# Altium integrated library TI_Logic_Little_Logic.IntLib: 1164 symbols (part 21 of 35)
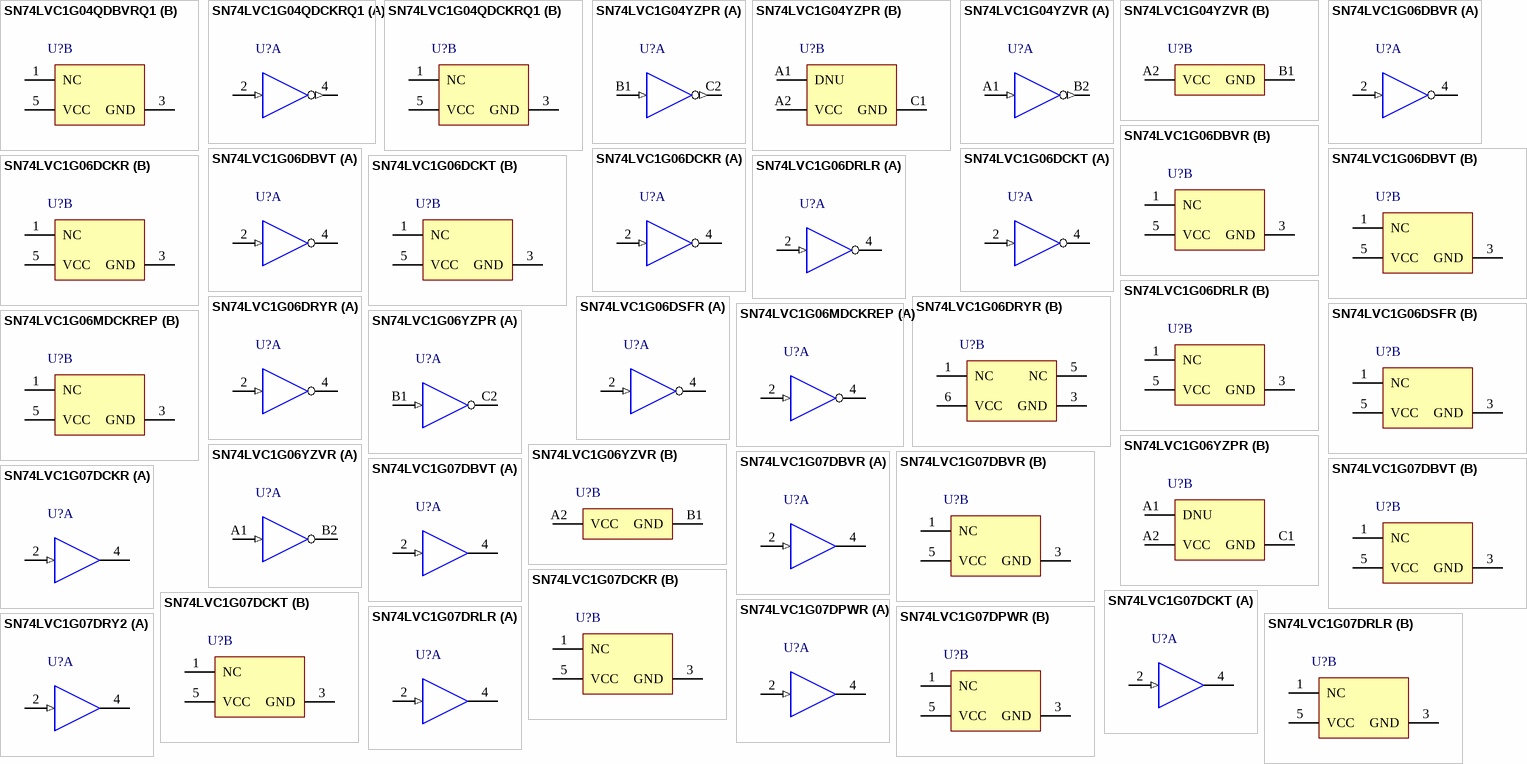
[diagram p80: symbols SN74LVC1G04QDBVRQ1 to SN74LVC1G07DRY2]

## SN74LVC1G04QDBVRQ1
designator U?
Automotive Catalog Single Inverter, DBV0005A, LARGE T&R; Generic Part Number: SN74LVC1G04-Q1; Manufacturer: Texas Instruments; PartNumber: SN74LVC1G04QDBVRQ1; VCC(Min)(V): 1.65; VCC(Max)(V): 5.5; Output Type: CMOS; ICC @ Nom Voltage(Max)(mA): 0.01; Input Type: CMOS/TTL; Bits(#): 1; F @ Nom Voltage(Max)(Mhz): 150; Technology Family: LVC; Voltage(Nom)(V): 1.8,2.5,3.3,5; Schmitt Trigger: No; Output Drive (IOL/IOH)(Max)(mA): 32/-32; tpd @ Nom Voltage(Max)(ns): 7.5,5.2,4.2,3.7; Logic: Inverting; Sub-Family: Inverting Buffer/Driver; DatasheetVersion: SCES482D; PackageReference: DBV0005A; Supplier 1: Mouser; Supplier Part Number 1: 595-LVC1G04QDBVRQ1; Supplier 2: Digi-Key; Supplier Part Number 2: 296-26588-2-ND; Supplier 3: Digi-Key; Supplier Part Number 3: 296-26588-1-ND; Supplier 4: Digi-Key; Supplier Part Number 4: 296-26588-6-ND; Operating Temperature Range(C): -40 to 125; Rating: Automotive; 3-State Output: No; ComponentLink1Description: Manufacturer URL; ComponentLink1URL: http://www.ti.com/; ComponentLink2Description: Datasheet; ComponentLink2URL: http://www.ti.com/lit/ds/symlink/sn74lvc1g04-q1.pdf
footprint DBV0005A_N (SOT23, 5-Leads, Body 3.05x1.75mm, Pitch 0.95mm, IPC Medium Density)
footprint DBV0005A_M (SOT23, 5-Leads, Body 3.05x1.75mm, Pitch 0.95mm, IPC Low Density)
footprint DBV0005A_L (SOT23, 5-Leads, Body 3.05x1.75mm, Pitch 0.95mm, IPC High Density)
part A pins: 2 A (in) "Input A", 4 Y (out) "Output Y"
part B pins: 1 NC "Ground", 3 GND (power) "Ground Pin", 5 VCC (power) "Power Pin"

## SN74LVC1G04QDCKRQ1
designator U?
Automotive Catalog Single Inverter, DCK0005A, LARGE T&R; Generic Part Number: SN74LVC1G04-Q1; Manufacturer: Texas Instruments; PartNumber: SN74LVC1G04QDCKRQ1; VCC(Min)(V): 1.65; VCC(Max)(V): 5.5; Output Type: CMOS; ICC @ Nom Voltage(Max)(mA): 0.01; Input Type: CMOS/TTL; Bits(#): 1; F @ Nom Voltage(Max)(Mhz): 150; Technology Family: LVC; Voltage(Nom)(V): 1.8,2.5,3.3,5; Schmitt Trigger: No; Output Drive (IOL/IOH)(Max)(mA): 32/-32; tpd @ Nom Voltage(Max)(ns): 7.5,5.2,4.2,3.7; Logic: Inverting; Sub-Family: Inverting Buffer/Driver; DatasheetVersion: SCES482D; PackageReference: DCK0005A; Supplier 1: Mouser; Supplier Part Number 1: 595-SN74LVC1G04QDCQ1; Supplier 2: Digi-Key; Supplier Part Number 2: 296-22895-2-ND; Supplier 3: Digi-Key; Supplier Part Number 3: 296-22895-1-ND; Supplier 4: Digi-Key; Supplier Part Number 4: 296-22895-6-ND; Operating Temperature Range(C): -40 to 125; Rating: Automotive; 3-State Output: No; ComponentLink1Description: Manufacturer URL; ComponentLink1URL: http://www.ti.com/; ComponentLink2Description: Datasheet; ComponentLink2URL: http://www.ti.com/lit/ds/symlink/sn74lvc1g04-q1.pdf
footprint DCK0005A_N (SOT23, 5-Leads, Body 2.15x1.4mm, Pitch 0.65mm, IPC Medium Density)
footprint DCK0005A_M (SOT23, 5-Leads, Body 2.15x1.4mm, Pitch 0.65mm, IPC Low Density)
footprint DCK0005A_L (SOT23, 5-Leads, Body 2.15x1.4mm, Pitch 0.65mm, IPC High Density)
part A pins: 2 A (in) "Input A", 4 Y (out) "Output Y"
part B pins: 1 NC "Ground", 3 GND (power) "Ground Pin", 5 VCC (power) "Power Pin"

## SN74LVC1G04YZPR
designator U?
Single Inverter, YZP0005ADAD, LARGE T&R; Generic Part Number: SN74LVC1G04; Manufacturer: Texas Instruments; PartNumber: SN74LVC1G04YZPR; VCC(Min)(V): 1.65; VCC(Max)(V): 5.5; Output Type: CMOS; ICC @ Nom Voltage(Max)(mA): 0.01; Input Type: CMOS/TTL; Bits(#): 1; F @ Nom Voltage(Max)(Mhz): 150; Rating: Catalog; Technology Family: LVC; Voltage(Nom)(V): 1.8,2.5,3.3,5; Schmitt Trigger: No; Output Drive (IOL/IOH)(Max)(mA): 32/-32; tpd @ Nom Voltage(Max)(ns): 7.5,5.2,4.2,3.7; Logic: Inverting; Sub-Family: Inverting Buffer/Driver; DatasheetVersion: SCES214AD; PackageReference: YZP0005ADAD; Supplier 1: Mouser; Supplier Part Number 1: 595-SN74LVC1G04YZPR; Supplier 2: Digi-Key; Supplier Part Number 2: 296-14355-2-ND; Supplier 3: Digi-Key; Supplier Part Number 3: 296-14355-1-ND; Supplier 4: Digi-Key; Supplier Part Number 4: 296-14355-6-ND; Operating Temperature Range(C): -40 to 125,-40 to 85; 3-State Output: No; ComponentLink1Description: Manufacturer URL; ComponentLink1URL: http://www.ti.com/; ComponentLink2Description: Datasheet; ComponentLink2URL: http://www.ti.com/lit/ds/symlink/sn74lvc1g04.pdf
footprint YZP0005ADAD (BGA, 5-Balls, Body 1.39x0.89mm, Pitch 0.5mm)
part A pins: B1 A (in) "Input", C2 Y (out) "Output"
part B pins: A1 DNU "Do not use", A2 VCC (power) "Power terminal", C1 GND (power) "Ground"

## SN74LVC1G04YZVR
designator U?
Single Inverter, YZV0004ADAD, LARGE T&R; Generic Part Number: SN74LVC1G04; Manufacturer: Texas Instruments; PartNumber: SN74LVC1G04YZVR; VCC(Min)(V): 1.65; VCC(Max)(V): 5.5; Output Type: CMOS; ICC @ Nom Voltage(Max)(mA): 0.01; Input Type: CMOS/TTL; Bits(#): 1; F @ Nom Voltage(Max)(Mhz): 150; Rating: Catalog; Technology Family: LVC; Voltage(Nom)(V): 1.8,2.5,3.3,5; Schmitt Trigger: No; Output Drive (IOL/IOH)(Max)(mA): 32/-32; tpd @ Nom Voltage(Max)(ns): 7.5,5.2,4.2,3.7; Logic: Inverting; Sub-Family: Inverting Buffer/Driver; DatasheetVersion: SCES214AD; PackageReference: YZV0004ADAD; Supplier 1: Mouser; Supplier Part Number 1: 595-SN74LVC1G04YZVR; Supplier 2: Digi-Key; Supplier Part Number 2: 296-21055-2-ND; Supplier 3: Digi-Key; Supplier Part Number 3: 296-21055-1-ND; Supplier 4: Digi-Key; Supplier Part Number 4: 296-21055-6-ND; Operating Temperature Range(C): -40 to 125,-40 to 85; 3-State Output: No; ComponentLink1Description: Manufacturer URL; ComponentLink1URL: http://www.ti.com/; ComponentLink2Description: Datasheet; ComponentLink2URL: http://www.ti.com/lit/ds/symlink/sn74lvc1g04.pdf
footprint YZV0004ADAD (BGA, 4-Balls, Body 0.89x0.89mm, Pitch 0.5mm)
part A pins: A1 A (in) "Input", B2 Y (out) "Output"
part B pins: A2 VCC (power) "Power pin", B1 GND (power) "Ground"

## SN74LVC1G06DBVR
designator U?
Single Inverter Buffer/Driver With Open-Drain Output, DBV0005A, LARGE T&R; Generic Part Number: SN74LVC1G06; Manufacturer: Texas Instruments; PartNumber: SN74LVC1G06DBVR; VCC(Min)(V): 1.65; VCC(Max)(V): 5.5; Output Type: CMOS; ICC @ Nom Voltage(Max)(mA): 0.01; Input Type: CMOS/TTL; Bits(#): 1; F @ Nom Voltage(Max)(Mhz): 150; Rating: Catalog; Technology Family: LVC; Voltage(Nom)(V): 1.8,2.5,3.3,5; Schmitt Trigger: No; Output Drive (IOL/IOH)(Max)(mA): 32/-32; tpd @ Nom Voltage(Max)(ns): 6.5,4,3; Logic: Inverting; Sub-Family: Inverting Buffer/Driver; DatasheetVersion: SCES295W; PackageReference: DBV0005A; Supplier 1: Mouser; Supplier Part Number 1: 595-SN74LVC1G06DBVR; Supplier 2: Digi-Key; Supplier Part Number 2: 296-8483-2-ND; Supplier 3: Digi-Key; Supplier Part Number 3: 296-8483-1-ND; Supplier 4: Digi-Key; Supplier Part Number 4: 296-8483-6-ND; Operating Temperature Range(C): -40 to 125,-40 to 85; 3-State Output: No; ComponentLink1Description: Manufacturer URL; ComponentLink1URL: http://www.ti.com/; ComponentLink2Description: Datasheet; ComponentLink2URL: http://www.ti.com/lit/ds/symlink/sn74lvc1g06.pdf
footprint DBV0005A_N (SOT23, 5-Leads, Body 3.05x1.75mm, Pitch 0.95mm, IPC Medium Density)
footprint DBV0005A_M (SOT23, 5-Leads, Body 3.05x1.75mm, Pitch 0.95mm, IPC Low Density)
footprint DBV0005A_L (SOT23, 5-Leads, Body 3.05x1.75mm, Pitch 0.95mm, IPC High Density)
part A pins: 2 A (in), 4 Y (oc)
part B pins: 1 NC, 3 GND (power), 5 VCC (power)

## SN74LVC1G06DBVT
designator U?
Single Inverter Buffer/Driver With Open-Drain Output, DBV0005A, SMALL T&R; Generic Part Number: SN74LVC1G06; Manufacturer: Texas Instruments; PartNumber: SN74LVC1G06DBVT; VCC(Min)(V): 1.65; VCC(Max)(V): 5.5; Output Type: CMOS; ICC @ Nom Voltage(Max)(mA): 0.01; Input Type: CMOS/TTL; Bits(#): 1; F @ Nom Voltage(Max)(Mhz): 150; Rating: Catalog; Technology Family: LVC; Voltage(Nom)(V): 1.8,2.5,3.3,5; Schmitt Trigger: No; Output Drive (IOL/IOH)(Max)(mA): 32/-32; tpd @ Nom Voltage(Max)(ns): 6.5,4,3; Logic: Inverting; Sub-Family: Inverting Buffer/Driver; DatasheetVersion: SCES295W; PackageReference: DBV0005A; Supplier 1: Mouser; Supplier Part Number 1: 595-SN74LVC1G06DBVT; Supplier 2: Digi-Key; Supplier Part Number 2: 296-26589-2-ND; Supplier 3: Digi-Key; Supplier Part Number 3: 296-26589-1-ND; Supplier 4: Digi-Key; Supplier Part Number 4: 296-26589-6-ND; Operating Temperature Range(C): -40 to 125,-40 to 85; 3-State Output: No; ComponentLink1Description: Manufacturer URL; ComponentLink1URL: http://www.ti.com/; ComponentLink2Description: Datasheet; ComponentLink2URL: http://www.ti.com/lit/ds/symlink/sn74lvc1g06.pdf
footprint DBV0005A_N (SOT23, 5-Leads, Body 3.05x1.75mm, Pitch 0.95mm, IPC Medium Density)
footprint DBV0005A_M (SOT23, 5-Leads, Body 3.05x1.75mm, Pitch 0.95mm, IPC Low Density)
footprint DBV0005A_L (SOT23, 5-Leads, Body 3.05x1.75mm, Pitch 0.95mm, IPC High Density)
part A pins: 2 A (in), 4 Y (oc)
part B pins: 1 NC, 3 GND (power), 5 VCC (power)

## SN74LVC1G06DCKR
designator U?
Single Inverter Buffer/Driver With Open-Drain Output, DCK0005A, LARGE T&R; Generic Part Number: SN74LVC1G06; Manufacturer: Texas Instruments; PartNumber: SN74LVC1G06DCKR; VCC(Min)(V): 1.65; VCC(Max)(V): 5.5; Output Type: CMOS; ICC @ Nom Voltage(Max)(mA): 0.01; Input Type: CMOS/TTL; Bits(#): 1; F @ Nom Voltage(Max)(Mhz): 150; Rating: Catalog; Technology Family: LVC; Voltage(Nom)(V): 1.8,2.5,3.3,5; Schmitt Trigger: No; Output Drive (IOL/IOH)(Max)(mA): 32/-32; tpd @ Nom Voltage(Max)(ns): 6.5,4,3; Logic: Inverting; Sub-Family: Inverting Buffer/Driver; DatasheetVersion: SCES295W; PackageReference: DCK0005A; Supplier 1: Mouser; Supplier Part Number 1: 595-SN74LVC1G06DCKR; Supplier 2: Digi-Key; Supplier Part Number 2: 296-8484-2-ND; Supplier 3: Digi-Key; Supplier Part Number 3: 296-8484-1-ND; Supplier 4: Digi-Key; Supplier Part Number 4: 296-8484-6-ND; Operating Temperature Range(C): -40 to 125,-40 to 85; 3-State Output: No; ComponentLink1Description: Manufacturer URL; ComponentLink1URL: http://www.ti.com/; ComponentLink2Description: Datasheet; ComponentLink2URL: http://www.ti.com/lit/ds/symlink/sn74lvc1g06.pdf
footprint DCK0005A_N (SOT23, 5-Leads, Body 2.15x1.4mm, Pitch 0.65mm, IPC Medium Density)
footprint DCK0005A_M (SOT23, 5-Leads, Body 2.15x1.4mm, Pitch 0.65mm, IPC Low Density)
footprint DCK0005A_L (SOT23, 5-Leads, Body 2.15x1.4mm, Pitch 0.65mm, IPC High Density)
part A pins: 2 A (in), 4 Y (oc)
part B pins: 1 NC, 3 GND (power), 5 VCC (power)

## SN74LVC1G06DCKT
designator U?
Single Inverter Buffer/Driver With Open-Drain Output, DCK0005A, SMALL T&R; Generic Part Number: SN74LVC1G06; Manufacturer: Texas Instruments; PartNumber: SN74LVC1G06DCKT; VCC(Min)(V): 1.65; VCC(Max)(V): 5.5; Output Type: CMOS; ICC @ Nom Voltage(Max)(mA): 0.01; Input Type: CMOS/TTL; Bits(#): 1; F @ Nom Voltage(Max)(Mhz): 150; Rating: Catalog; Technology Family: LVC; Voltage(Nom)(V): 1.8,2.5,3.3,5; Schmitt Trigger: No; Output Drive (IOL/IOH)(Max)(mA): 32/-32; tpd @ Nom Voltage(Max)(ns): 6.5,4,3; Logic: Inverting; Sub-Family: Inverting Buffer/Driver; DatasheetVersion: SCES295W; PackageReference: DCK0005A; Supplier 1: Mouser; Supplier Part Number 1: 595-SN74LVC1G06DCKT; Supplier 2: Digi-Key; Supplier Part Number 2: 296-32290-2-ND; Supplier 3: Digi-Key; Supplier Part Number 3: 296-32290-1-ND; Supplier 4: Digi-Key; Supplier Part Number 4: 296-32290-6-ND; Operating Temperature Range(C): -40 to 125,-40 to 85; 3-State Output: No; ComponentLink1Description: Manufacturer URL; ComponentLink1URL: http://www.ti.com/; ComponentLink2Description: Datasheet; ComponentLink2URL: http://www.ti.com/lit/ds/symlink/sn74lvc1g06.pdf
footprint DCK0005A_N (SOT23, 5-Leads, Body 2.15x1.4mm, Pitch 0.65mm, IPC Medium Density)
footprint DCK0005A_M (SOT23, 5-Leads, Body 2.15x1.4mm, Pitch 0.65mm, IPC Low Density)
footprint DCK0005A_L (SOT23, 5-Leads, Body 2.15x1.4mm, Pitch 0.65mm, IPC High Density)
part A pins: 2 A (in), 4 Y (oc)
part B pins: 1 NC, 3 GND (power), 5 VCC (power)

## SN74LVC1G06DRLR
designator U?
Single Inverter Buffer/Driver With Open-Drain Output, DRL0005A, LARGE T&R; Generic Part Number: SN74LVC1G06; Manufacturer: Texas Instruments; PartNumber: SN74LVC1G06DRLR; VCC(Min)(V): 1.65; VCC(Max)(V): 5.5; Output Type: CMOS; ICC @ Nom Voltage(Max)(mA): 0.01; Input Type: CMOS/TTL; Bits(#): 1; F @ Nom Voltage(Max)(Mhz): 150; Rating: Catalog; Technology Family: LVC; Voltage(Nom)(V): 1.8,2.5,3.3,5; Schmitt Trigger: No; Output Drive (IOL/IOH)(Max)(mA): 32/-32; tpd @ Nom Voltage(Max)(ns): 6.5,4,3; Logic: Inverting; Sub-Family: Inverting Buffer/Driver; DatasheetVersion: SCES295W; PackageReference: DRL0005A; Supplier 1: Mouser; Supplier Part Number 1: 595-SN74LVC1G06DRLR; Supplier 2: Digi-Key; Supplier Part Number 2: 296-18009-2-ND; Supplier 3: Digi-Key; Supplier Part Number 3: 296-18009-1-ND; Supplier 4: Digi-Key; Supplier Part Number 4: 296-18009-6-ND; Operating Temperature Range(C): -40 to 125,-40 to 85; 3-State Output: No; ComponentLink1Description: Manufacturer URL; ComponentLink1URL: http://www.ti.com/; ComponentLink2Description: Datasheet; ComponentLink2URL: http://www.ti.com/lit/ds/symlink/sn74lvc1g06.pdf
footprint DRL0005A_N (SOT23, 5-Leads, Body 1.7x1.3mm, Pitch 0.5mm, IPC Medium Density)
footprint DRL0005A_M (SOT23, 5-Leads, Body 1.7x1.3mm, Pitch 0.5mm, IPC Low Density)
footprint DRL0005A_L (SOT23, 5-Leads, Body 1.7x1.3mm, Pitch 0.5mm, IPC High Density)
part A pins: 2 A (in), 4 Y (oc)
part B pins: 1 NC, 3 GND (power), 5 VCC (power)

## SN74LVC1G06DRYR
designator U?
Single Inverter Buffer/Driver With Open-Drain Output, DRY0006A, LARGE T&R; Generic Part Number: SN74LVC1G06; Manufacturer: Texas Instruments; PartNumber: SN74LVC1G06DRYR; VCC(Min)(V): 1.65; VCC(Max)(V): 5.5; Output Type: CMOS; ICC @ Nom Voltage(Max)(mA): 0.01; Input Type: CMOS/TTL; Bits(#): 1; F @ Nom Voltage(Max)(Mhz): 150; Rating: Catalog; Technology Family: LVC; Voltage(Nom)(V): 1.8,2.5,3.3,5; Schmitt Trigger: No; Output Drive (IOL/IOH)(Max)(mA): 32/-32; tpd @ Nom Voltage(Max)(ns): 6.5,4,3; Logic: Inverting; Sub-Family: Inverting Buffer/Driver; DatasheetVersion: SCES295W; PackageReference: DRY0006A; Supplier 1: Mouser; Supplier Part Number 1: 595-SN74LVC1G06DRYR; Supplier 2: Digi-Key; Supplier Part Number 2: 296-29047-2-ND; Supplier 3: Digi-Key; Supplier Part Number 3: 296-29047-1-ND; Supplier 4: Digi-Key; Supplier Part Number 4: 296-29047-6-ND; Operating Temperature Range(C): -40 to 125,-40 to 85; 3-State Output: No; ComponentLink1Description: Manufacturer URL; ComponentLink1URL: http://www.ti.com/; ComponentLink2Description: Datasheet; ComponentLink2URL: http://www.ti.com/lit/ds/symlink/sn74lvc1g06.pdf
footprint DRY0006A_V (SON, 6-Leads, Body 1.45x1mm, Pitch 0.5mm)
part A pins: 2 A (in), 4 Y (oc)
part B pins: 1 NC, 3 GND (power), 5 NC, 6 VCC (power)

## SN74LVC1G06DSFR
designator U?
Single Inverter Buffer/Driver With Open-Drain Output, DSF0006A, LARGE T&R; Generic Part Number: SN74LVC1G06; Manufacturer: Texas Instruments; PartNumber: SN74LVC1G06DSFR; VCC(Min)(V): 1.65; VCC(Max)(V): 5.5; Output Type: CMOS; ICC @ Nom Voltage(Max)(mA): 0.01; Input Type: CMOS/TTL; Bits(#): 1; F @ Nom Voltage(Max)(Mhz): 150; Rating: Catalog; Technology Family: LVC; Voltage(Nom)(V): 1.8,2.5,3.3,5; Schmitt Trigger: No; Output Drive (IOL/IOH)(Max)(mA): 32/-32; tpd @ Nom Voltage(Max)(ns): 6.5,4,3; Logic: Inverting; Sub-Family: Inverting Buffer/Driver; DatasheetVersion: SCES295W; PackageReference: DSF0006A; Supplier 1: Mouser; Supplier Part Number 1: 595-SN74LVC1G06DSFR; Supplier 2: Digi-Key; Supplier Part Number 2: 296-29048-2-ND; Supplier 3: Digi-Key; Supplier Part Number 3: 296-29048-1-ND; Supplier 4: Digi-Key; Supplier Part Number 4: 296-29048-6-ND; Operating Temperature Range(C): -40 to 125,-40 to 85; 3-State Output: No; ComponentLink1Description: Manufacturer URL; ComponentLink1URL: http://www.ti.com/; ComponentLink2Description: Datasheet; ComponentLink2URL: http://www.ti.com/lit/ds/symlink/sn74lvc1g06.pdf
footprint DSF0006A_V (SON, 6-Leads, Body 1x1mm, Pitch 0.35mm, TI Recommend)
part A pins: 2 A (in), 4 Y (oc)
part B pins: 1 NC, 3 GND (power), 5 VCC (power)

## SN74LVC1G06MDCKREP
designator U?
Enhanced Product Single Inverter Buffer/Driver With Open-Drain Output, DCK0005A, LARGE T&R; Generic Part Number: SN74LVC1G06-EP; Manufacturer: Texas Instruments; PartNumber: SN74LVC1G06MDCKREP; VCC(Min)(V): 1.65; VCC(Max)(V): 5.5; Output Type: CMOS; ICC @ Nom Voltage(Max)(mA): 0.01; Input Type: CMOS/TTL; Bits(#): 1; F @ Nom Voltage(Max)(Mhz): 150; Rating: HiRel Enhanced Product; Technology Family: LVC; Voltage(Nom)(V): 1.8,2.5,3.3,5; Schmitt Trigger: No; Output Drive (IOL/IOH)(Max)(mA): 32/-32; tpd @ Nom Voltage(Max)(ns): 8,6,5.5; Logic: Inverting; Sub-Family: Inverting Buffer/Driver; DatasheetVersion: SCES669A; PackageReference: DCK0005A; Supplier 1: Mouser; Supplier Part Number 1: 595-SN74LVC06MDCKREP; Supplier 2: Digi-Key; Supplier Part Number 2: 296-22342-2-ND; Supplier 3: Digi-Key; Supplier Part Number 3: 296-22342-1-ND; Supplier 4: Digi-Key; Supplier Part Number 4: 296-22342-6-ND; Operating Temperature Range(C): -55 to 125; 3-State Output: No; ComponentLink1Description: Manufacturer URL; ComponentLink1URL: http://www.ti.com/; ComponentLink2Description: Datasheet; ComponentLink2URL: http://www.ti.com/lit/ds/symlink/sn74lvc1g06-ep.pdf
footprint DCK0005A_N (SOT23, 5-Leads, Body 2.15x1.4mm, Pitch 0.65mm, IPC Medium Density)
footprint DCK0005A_M (SOT23, 5-Leads, Body 2.15x1.4mm, Pitch 0.65mm, IPC Low Density)
footprint DCK0005A_L (SOT23, 5-Leads, Body 2.15x1.4mm, Pitch 0.65mm, IPC High Density)
part A pins: 2 A (in), 4 Y (oc)
part B pins: 1 NC, 3 GND (power), 5 VCC (power)

## SN74LVC1G06YZPR
designator U?
Single Inverter Buffer/Driver With Open-Drain Output, YZP0005ADAD, LARGE T&R; Generic Part Number: SN74LVC1G06; Manufacturer: Texas Instruments; PartNumber: SN74LVC1G06YZPR; VCC(Min)(V): 1.65; VCC(Max)(V): 5.5; Output Type: CMOS; ICC @ Nom Voltage(Max)(mA): 0.01; Input Type: CMOS/TTL; Bits(#): 1; F @ Nom Voltage(Max)(Mhz): 150; Rating: Catalog; Technology Family: LVC; Voltage(Nom)(V): 1.8,2.5,3.3,5; Schmitt Trigger: No; Output Drive (IOL/IOH)(Max)(mA): 32/-32; tpd @ Nom Voltage(Max)(ns): 6.5,4,3; Logic: Inverting; Sub-Family: Inverting Buffer/Driver; DatasheetVersion: SCES295W; PackageReference: YZP0005ADAD; Supplier 1: Mouser; Supplier Part Number 1: 595-SN74LVC1G06YZPR; Supplier 2: Digi-Key; Supplier Part Number 2: 296-20771-2-ND; Supplier 3: Digi-Key; Supplier Part Number 3: 296-20771-1-ND; Supplier 4: Digi-Key; Supplier Part Number 4: 296-20771-6-ND; Operating Temperature Range(C): -40 to 125,-40 to 85; 3-State Output: No; ComponentLink1Description: Manufacturer URL; ComponentLink1URL: http://www.ti.com/; ComponentLink2Description: Datasheet; ComponentLink2URL: http://www.ti.com/lit/ds/symlink/sn74lvc1g06.pdf
footprint YZP0005ADAD (BGA, 5-Balls, Body 1.39x0.89mm, Pitch 0.5mm)
part A pins: B1 A (in), C2 Y (oc)
part B pins: A1 DNU, A2 VCC (power), C1 GND (power)

## SN74LVC1G06YZVR
designator U?
Single Inverter Buffer/Driver With Open-Drain Output, YZV0004ADAD, LARGE T&R; Generic Part Number: SN74LVC1G06; Manufacturer: Texas Instruments; PartNumber: SN74LVC1G06YZVR; VCC(Min)(V): 1.65; VCC(Max)(V): 5.5; Output Type: CMOS; ICC @ Nom Voltage(Max)(mA): 0.01; Input Type: CMOS/TTL; Bits(#): 1; F @ Nom Voltage(Max)(Mhz): 150; Rating: Catalog; Technology Family: LVC; Voltage(Nom)(V): 1.8,2.5,3.3,5; Schmitt Trigger: No; Output Drive (IOL/IOH)(Max)(mA): 32/-32; tpd @ Nom Voltage(Max)(ns): 6.5,4,3; Logic: Inverting; Sub-Family: Inverting Buffer/Driver; DatasheetVersion: SCES295W; PackageReference: YZV0004ADAD; Supplier 1: Mouser; Supplier Part Number 1: 595-SN74LVC1G06YZVR; Supplier 2: Digi-Key; Supplier Part Number 2: 296-21056-2-ND; Supplier 3: Digi-Key; Supplier Part Number 3: 296-21056-1-ND; Supplier 4: Digi-Key; Supplier Part Number 4: 296-21056-6-ND; Operating Temperature Range(C): -40 to 125,-40 to 85; 3-State Output: No; ComponentLink1Description: Manufacturer URL; ComponentLink1URL: http://www.ti.com/; ComponentLink2Description: Datasheet; ComponentLink2URL: http://www.ti.com/lit/ds/symlink/sn74lvc1g06.pdf
footprint YZV0004ADAD (BGA, 4-Balls, Body 0.89x0.89mm, Pitch 0.5mm)
part A pins: A1 A (in), B2 Y (oc)
part B pins: A2 VCC (power), B1 GND (power)

## SN74LVC1G07DBVR
designator U?
Single Buffer/Driver With Open-Drain Output, DBV0005A, LARGE T&R; Generic Part Number: SN74LVC1G07; Manufacturer: Texas Instruments; PartNumber: SN74LVC1G07DBVR; VCC(Min)(V): 1.65; VCC(Max)(V): 5.5; Output Type: CMOS; ICC @ Nom Voltage(Max)(mA): 0.01; Input Type: CMOS/TTL; Bits(#): 1; F @ Nom Voltage(Max)(Mhz): 150; Rating: Catalog; Technology Family: LVC; Voltage(Nom)(V): 1.8,2.5,3.3,5; Schmitt Trigger: No; Output Drive (IOL/IOH)(Max)(mA): 32/-32; tpd @ Nom Voltage(Max)(ns): 8.6,6,4.7,4; Logic: True; Sub-Family: Non-Inverting Buffer/Driver; DatasheetVersion: SCES296AC; PackageReference: DBV0005A; Supplier 1: Mouser; Supplier Part Number 1: 595-SN74LVC1G07DBVR; Supplier 2: Digi-Key; Supplier Part Number 2: 296-8485-2-ND; Supplier 3: Digi-Key; Supplier Part Number 3: 296-8485-1-ND; Supplier 4: Digi-Key; Supplier Part Number 4: 296-8485-6-ND; Operating Temperature Range(C): -40 to 125,-40 to 85; 3-State Output: No; ComponentLink1Description: Manufacturer URL; ComponentLink1URL: http://www.ti.com/; ComponentLink2Description: Datasheet; ComponentLink2URL: http://www.ti.com/lit/ds/symlink/sn74lvc1g07.pdf
footprint DBV0005A_N (SOT23, 5-Leads, Body 3.05x1.75mm, Pitch 0.95mm, IPC Medium Density)
footprint DBV0005A_M (SOT23, 5-Leads, Body 3.05x1.75mm, Pitch 0.95mm, IPC Low Density)
footprint DBV0005A_L (SOT23, 5-Leads, Body 3.05x1.75mm, Pitch 0.95mm, IPC High Density)
part A pins: 2 A (in) "Input A", 4 Y (oc) "Output Y"
part B pins: 1 NC "No Connection", 3 GND (power) "Ground Pin", 5 VCC (power) "Power Pin"

## SN74LVC1G07DBVT
designator U?
Single Buffer/Driver With Open-Drain Output, DBV0005A, SMALL T&R; Generic Part Number: SN74LVC1G07; Manufacturer: Texas Instruments; PartNumber: SN74LVC1G07DBVT; VCC(Min)(V): 1.65; VCC(Max)(V): 5.5; Output Type: CMOS; ICC @ Nom Voltage(Max)(mA): 0.01; Input Type: CMOS/TTL; Bits(#): 1; F @ Nom Voltage(Max)(Mhz): 150; Rating: Catalog; Technology Family: LVC; Voltage(Nom)(V): 1.8,2.5,3.3,5; Schmitt Trigger: No; Output Drive (IOL/IOH)(Max)(mA): 32/-32; tpd @ Nom Voltage(Max)(ns): 8.6,6,4.7,4; Logic: True; Sub-Family: Non-Inverting Buffer/Driver; DatasheetVersion: SCES296AC; PackageReference: DBV0005A; Supplier 1: Mouser; Supplier Part Number 1: 595-SN74LVC1G07DBVT; Supplier 2: Digi-Key; Supplier Part Number 2: 296-26590-2-ND; Supplier 3: Digi-Key; Supplier Part Number 3: 296-26590-1-ND; Supplier 4: Digi-Key; Supplier Part Number 4: 296-26590-6-ND; Operating Temperature Range(C): -40 to 125,-40 to 85; 3-State Output: No; ComponentLink1Description: Manufacturer URL; ComponentLink1URL: http://www.ti.com/; ComponentLink2Description: Datasheet; ComponentLink2URL: http://www.ti.com/lit/ds/symlink/sn74lvc1g07.pdf
footprint DBV0005A_N (SOT23, 5-Leads, Body 3.05x1.75mm, Pitch 0.95mm, IPC Medium Density)
footprint DBV0005A_M (SOT23, 5-Leads, Body 3.05x1.75mm, Pitch 0.95mm, IPC Low Density)
footprint DBV0005A_L (SOT23, 5-Leads, Body 3.05x1.75mm, Pitch 0.95mm, IPC High Density)
part A pins: 2 A (in) "Input A", 4 Y (oc) "Output Y"
part B pins: 1 NC "No Connection", 3 GND (power) "Ground Pin", 5 VCC (power) "Power Pin"

## SN74LVC1G07DCKR
designator U?
Single Buffer/Driver With Open-Drain Output, DCK0005A, LARGE T&R; Generic Part Number: SN74LVC1G07; Manufacturer: Texas Instruments; PartNumber: SN74LVC1G07DCKR; VCC(Min)(V): 1.65; VCC(Max)(V): 5.5; Output Type: CMOS; ICC @ Nom Voltage(Max)(mA): 0.01; Input Type: CMOS/TTL; Bits(#): 1; F @ Nom Voltage(Max)(Mhz): 150; Rating: Catalog; Technology Family: LVC; Voltage(Nom)(V): 1.8,2.5,3.3,5; Schmitt Trigger: No; Output Drive (IOL/IOH)(Max)(mA): 32/-32; tpd @ Nom Voltage(Max)(ns): 8.6,6,4.7,4; Logic: True; Sub-Family: Non-Inverting Buffer/Driver; DatasheetVersion: SCES296AC; PackageReference: DCK0005A; Supplier 1: Mouser; Supplier Part Number 1: 595-SN74LVC1G07DCKR; Supplier 2: Digi-Key; Supplier Part Number 2: 296-8486-2-ND; Supplier 3: Digi-Key; Supplier Part Number 3: 296-8486-1-ND; Supplier 4: Digi-Key; Supplier Part Number 4: 296-8486-6-ND; Operating Temperature Range(C): -40 to 125,-40 to 85; 3-State Output: No; ComponentLink1Description: Manufacturer URL; ComponentLink1URL: http://www.ti.com/; ComponentLink2Description: Datasheet; ComponentLink2URL: http://www.ti.com/lit/ds/symlink/sn74lvc1g07.pdf
footprint DCK0005A_N (SOT23, 5-Leads, Body 2.15x1.4mm, Pitch 0.65mm, IPC Medium Density)
footprint DCK0005A_M (SOT23, 5-Leads, Body 2.15x1.4mm, Pitch 0.65mm, IPC Low Density)
footprint DCK0005A_L (SOT23, 5-Leads, Body 2.15x1.4mm, Pitch 0.65mm, IPC High Density)
part A pins: 2 A (in) "Input A", 4 Y (oc) "Output Y"
part B pins: 1 NC "No Connection", 3 GND (power) "Ground Pin", 5 VCC (power) "Power Pin"

## SN74LVC1G07DCKT
designator U?
Single Buffer/Driver With Open-Drain Output, DCK0005A, SMALL T&R; Generic Part Number: SN74LVC1G07; Manufacturer: Texas Instruments; PartNumber: SN74LVC1G07DCKT; VCC(Min)(V): 1.65; VCC(Max)(V): 5.5; Output Type: CMOS; ICC @ Nom Voltage(Max)(mA): 0.01; Input Type: CMOS/TTL; Bits(#): 1; F @ Nom Voltage(Max)(Mhz): 150; Rating: Catalog; Technology Family: LVC; Voltage(Nom)(V): 1.8,2.5,3.3,5; Schmitt Trigger: No; Output Drive (IOL/IOH)(Max)(mA): 32/-32; tpd @ Nom Voltage(Max)(ns): 8.6,6,4.7,4; Logic: True; Sub-Family: Non-Inverting Buffer/Driver; DatasheetVersion: SCES296AC; PackageReference: DCK0005A; Supplier 1: Mouser; Supplier Part Number 1: 595-SN74LVC1G07DCKT; Supplier 2: Digi-Key; Supplier Part Number 2: 296-26591-2-ND; Supplier 3: Digi-Key; Supplier Part Number 3: 296-26591-1-ND; Supplier 4: Digi-Key; Supplier Part Number 4: 296-26591-6-ND; Operating Temperature Range(C): -40 to 125,-40 to 85; 3-State Output: No; ComponentLink1Description: Manufacturer URL; ComponentLink1URL: http://www.ti.com/; ComponentLink2Description: Datasheet; ComponentLink2URL: http://www.ti.com/lit/ds/symlink/sn74lvc1g07.pdf
footprint DCK0005A_N (SOT23, 5-Leads, Body 2.15x1.4mm, Pitch 0.65mm, IPC Medium Density)
footprint DCK0005A_M (SOT23, 5-Leads, Body 2.15x1.4mm, Pitch 0.65mm, IPC Low Density)
footprint DCK0005A_L (SOT23, 5-Leads, Body 2.15x1.4mm, Pitch 0.65mm, IPC High Density)
part A pins: 2 A (in) "Input A", 4 Y (oc) "Output Y"
part B pins: 1 NC "No Connection", 3 GND (power) "Ground Pin", 5 VCC (power) "Power Pin"

## SN74LVC1G07DPWR
designator U?
Single Buffer/Driver With Open-Drain Output, DPW0004A, LARGE T&R; Generic Part Number: SN74LVC1G07; Manufacturer: Texas Instruments; PartNumber: SN74LVC1G07DPWR; VCC(Min)(V): 1.65; VCC(Max)(V): 5.5; Output Type: CMOS; ICC @ Nom Voltage(Max)(mA): 0.01; Input Type: CMOS/TTL; Bits(#): 1; F @ Nom Voltage(Max)(Mhz): 150; Rating: Catalog; Technology Family: LVC; Voltage(Nom)(V): 1.8,2.5,3.3,5; Schmitt Trigger: No; Output Drive (IOL/IOH)(Max)(mA): 32/-32; tpd @ Nom Voltage(Max)(ns): 8.6,6,4.7,4; Logic: True; Sub-Family: Non-Inverting Buffer/Driver; DatasheetVersion: SCES296AC; PackageReference: DPW0004A; Supplier 1: Mouser; Supplier Part Number 1: 595-SN74LVC1G07DPWR; Supplier 2: Digi-Key; Supplier Part Number 2: 296-37759-2-ND; Supplier 3: Digi-Key; Supplier Part Number 3: 296-37759-1-ND; Supplier 4: Digi-Key; Supplier Part Number 4: 296-37759-6-ND; Operating Temperature Range(C): -40 to 125,-40 to 85; 3-State Output: No; ComponentLink1Description: Manufacturer URL; ComponentLink1URL: http://www.ti.com/; ComponentLink2Description: Datasheet; ComponentLink2URL: http://www.ti.com/lit/ds/symlink/sn74lvc1g07.pdf
footprint DPW0004A_V (SON, 5-Leads, Body 0.8x0.8mm, TI Recommend)
part A pins: 2 A (in) "Input A", 4 Y (oc) "Output Y"
part B pins: 1 NC "No Connection", 3 GND (power) "Ground Pin", 5 VCC (power) "Power Pin"

## SN74LVC1G07DRLR
designator U?
Single Buffer/Driver With Open-Drain Output, DRL0005A, LARGE T&R; Generic Part Number: SN74LVC1G07; Manufacturer: Texas Instruments; PartNumber: SN74LVC1G07DRLR; VCC(Min)(V): 1.65; VCC(Max)(V): 5.5; Output Type: CMOS; ICC @ Nom Voltage(Max)(mA): 0.01; Input Type: CMOS/TTL; Bits(#): 1; F @ Nom Voltage(Max)(Mhz): 150; Rating: Catalog; Technology Family: LVC; Voltage(Nom)(V): 1.8,2.5,3.3,5; Schmitt Trigger: No; Output Drive (IOL/IOH)(Max)(mA): 32/-32; tpd @ Nom Voltage(Max)(ns): 8.6,6,4.7,4; Logic: True; Sub-Family: Non-Inverting Buffer/Driver; DatasheetVersion: SCES296AC; PackageReference: DRL0005A; Supplier 1: Mouser; Supplier Part Number 1: 595-SN74LVC1G07DRLR; Supplier 2: Digi-Key; Supplier Part Number 2: 296-18010-2-ND; Supplier 3: Digi-Key; Supplier Part Number 3: 296-18010-1-ND; Supplier 4: Digi-Key; Supplier Part Number 4: 296-18010-6-ND; Operating Temperature Range(C): -40 to 125,-40 to 85; 3-State Output: No; ComponentLink1Description: Manufacturer URL; ComponentLink1URL: http://www.ti.com/; ComponentLink2Description: Datasheet; ComponentLink2URL: http://www.ti.com/lit/ds/symlink/sn74lvc1g07.pdf
footprint DRL0005A_N (SOT23, 5-Leads, Body 1.7x1.3mm, Pitch 0.5mm, IPC Medium Density)
footprint DRL0005A_M (SOT23, 5-Leads, Body 1.7x1.3mm, Pitch 0.5mm, IPC Low Density)
footprint DRL0005A_L (SOT23, 5-Leads, Body 1.7x1.3mm, Pitch 0.5mm, IPC High Density)
part A pins: 2 A (in) "Input A", 4 Y (oc) "Output Y"
part B pins: 1 NC "No Connection", 3 GND (power) "Ground Pin", 5 VCC (power) "Power Pin"

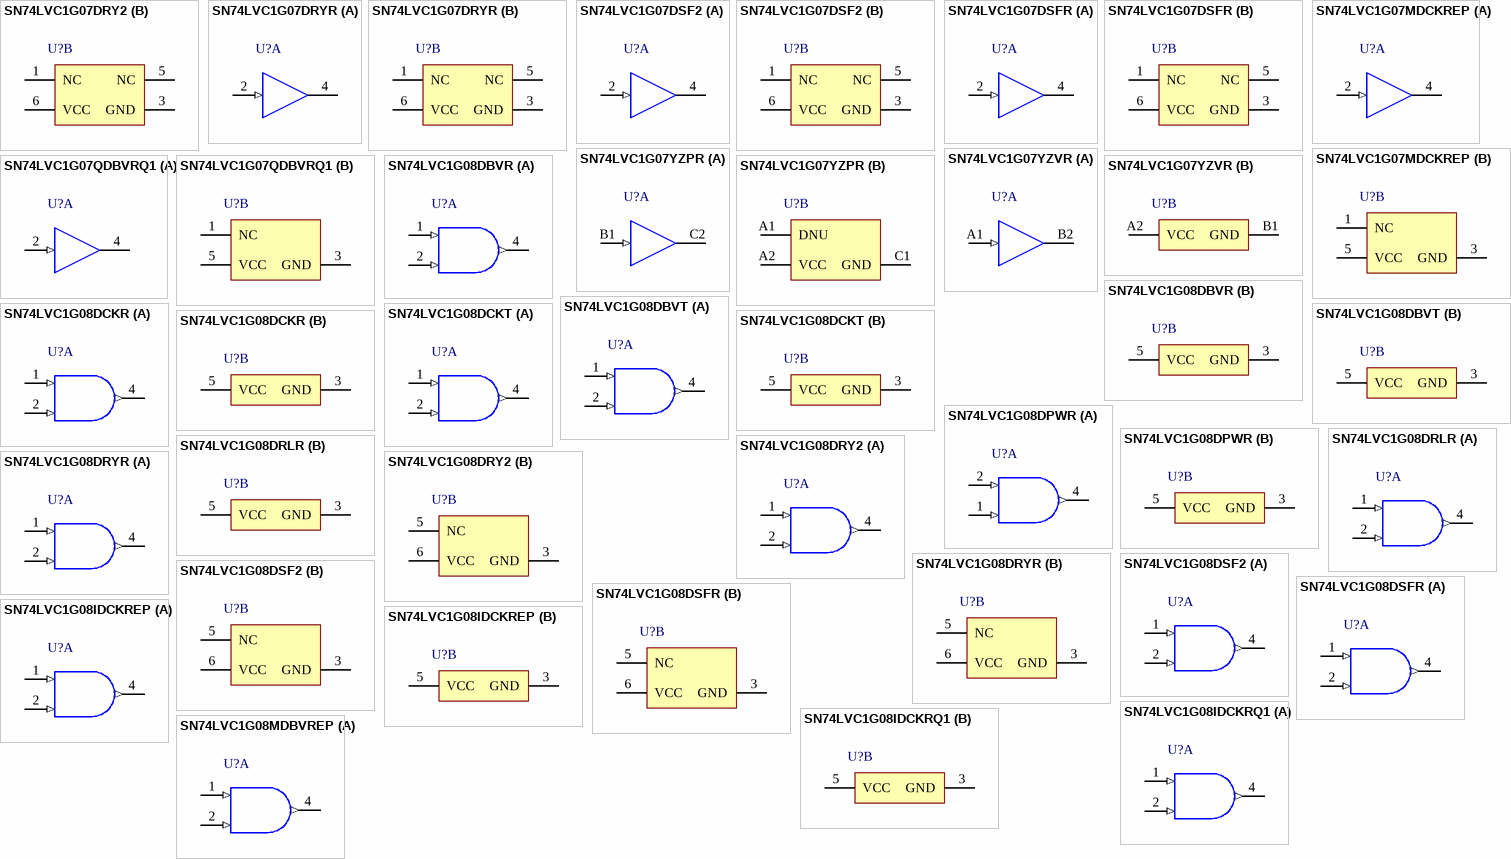
[diagram p36: symbols SN74LVC1G07DRY2 to SN74LVC1G08MDBVREP]

## SN74LVC1G07DRY2
designator U?
Single Buffer/Driver With Open-Drain Output, DRY0006A, LARGE T&R; Generic Part Number: SN74LVC1G07; Manufacturer: Texas Instruments; PartNumber: SN74LVC1G07DRY2; VCC(Min)(V): 1.65; VCC(Max)(V): 5.5; Output Type: CMOS; ICC @ Nom Voltage(Max)(mA): 0.01; Input Type: CMOS/TTL; Bits(#): 1; F @ Nom Voltage(Max)(Mhz): 150; Rating: Catalog; Technology Family: LVC; Voltage(Nom)(V): 1.8,2.5,3.3,5; Schmitt Trigger: No; Output Drive (IOL/IOH)(Max)(mA): 32/-32; tpd @ Nom Voltage(Max)(ns): 8.6,6,4.7,4; Logic: True; Sub-Family: Non-Inverting Buffer/Driver; DatasheetVersion: SCES296AC; PackageReference: DRY0006A; Supplier 1: Mouser; Supplier Part Number 1: 595-SN74LVC1G07DRY2; Supplier 2: Digi-Key; Supplier Part Number 2: SN74LVC1G07DRY2-ND; Operating Temperature Range(C): -40 to 125,-40 to 85; 3-State Output: No; ComponentLink1Description: Manufacturer URL; ComponentLink1URL: http://www.ti.com/; ComponentLink2Description: Datasheet; ComponentLink2URL: http://www.ti.com/lit/ds/symlink/sn74lvc1g07.pdf
footprint DRY0006A_V (SON, 6-Leads, Body 1.45x1mm, Pitch 0.5mm)
part A pins: 2 A (in) "Input", 4 Y (oc) "Output"
part B pins: 1 NC "No connect", 3 GND (power) "Ground", 5 NC "No connect", 6 VCC (power) "Power pin"

## SN74LVC1G07DRYR
designator U?
Single Buffer/Driver With Open-Drain Output, DRY0006A, LARGE T&R; Generic Part Number: SN74LVC1G07; Manufacturer: Texas Instruments; PartNumber: SN74LVC1G07DRYR; VCC(Min)(V): 1.65; VCC(Max)(V): 5.5; Output Type: CMOS; ICC @ Nom Voltage(Max)(mA): 0.01; Input Type: CMOS/TTL; Bits(#): 1; F @ Nom Voltage(Max)(Mhz): 150; Rating: Catalog; Technology Family: LVC; Voltage(Nom)(V): 1.8,2.5,3.3,5; Schmitt Trigger: No; Output Drive (IOL/IOH)(Max)(mA): 32/-32; tpd @ Nom Voltage(Max)(ns): 8.6,6,4.7,4; Logic: True; Sub-Family: Non-Inverting Buffer/Driver; DatasheetVersion: SCES296AC; PackageReference: DRY0006A; Supplier 1: Mouser; Supplier Part Number 1: 595-SN74LVC1G07DRYR; Supplier 2: Digi-Key; Supplier Part Number 2: 296-21544-2-ND; Supplier 3: Digi-Key; Supplier Part Number 3: 296-21544-1-ND; Supplier 4: Digi-Key; Supplier Part Number 4: 296-21544-6-ND; Operating Temperature Range(C): -40 to 125,-40 to 85; 3-State Output: No; ComponentLink1Description: Manufacturer URL; ComponentLink1URL: http://www.ti.com/; ComponentLink2Description: Datasheet; ComponentLink2URL: http://www.ti.com/lit/ds/symlink/sn74lvc1g07.pdf
footprint DRY0006A_V (SON, 6-Leads, Body 1.45x1mm, Pitch 0.5mm)
part A pins: 2 A (in) "Input", 4 Y (oc) "Output"
part B pins: 1 NC "No connect", 3 GND (power) "Ground", 5 NC "No connect", 6 VCC (power) "Power pin"

## SN74LVC1G07DSF2
designator U?
Single Buffer/Driver With Open-Drain Output, DSF0006A, LARGE T&R; Generic Part Number: SN74LVC1G07; Manufacturer: Texas Instruments; PartNumber: SN74LVC1G07DSF2; VCC(Min)(V): 1.65; VCC(Max)(V): 5.5; Output Type: CMOS; ICC @ Nom Voltage(Max)(mA): 0.01; Input Type: CMOS/TTL; Bits(#): 1; F @ Nom Voltage(Max)(Mhz): 150; Rating: Catalog; Technology Family: LVC; Voltage(Nom)(V): 1.8,2.5,3.3,5; Schmitt Trigger: No; Output Drive (IOL/IOH)(Max)(mA): 32/-32; tpd @ Nom Voltage(Max)(ns): 8.6,6,4.7,4; Logic: True; Sub-Family: Non-Inverting Buffer/Driver; DatasheetVersion: SCES296AC; PackageReference: DSF0006A; Supplier 1: Mouser; Supplier Part Number 1: 595-SN74LVC1G07DSF2; Supplier 2: Digi-Key; Supplier Part Number 2: SN74LVC1G07DSF2-ND; Operating Temperature Range(C): -40 to 125,-40 to 85; 3-State Output: No; ComponentLink1Description: Manufacturer URL; ComponentLink1URL: http://www.ti.com/; ComponentLink2Description: Datasheet; ComponentLink2URL: http://www.ti.com/lit/ds/symlink/sn74lvc1g07.pdf
footprint DSF0006A_V (SON, 6-Leads, Body 1x1mm, Pitch 0.35mm, TI Recommend)
part A pins: 2 A (in) "Input", 4 Y (oc) "Output"
part B pins: 1 NC "No connect", 3 GND (power) "Ground", 5 NC "No connect", 6 VCC (power) "Power pin"

## SN74LVC1G07DSFR
designator U?
Single Buffer/Driver With Open-Drain Output, DSF0006A, LARGE T&R; Generic Part Number: SN74LVC1G07; Manufacturer: Texas Instruments; PartNumber: SN74LVC1G07DSFR; VCC(Min)(V): 1.65; VCC(Max)(V): 5.5; Output Type: CMOS; ICC @ Nom Voltage(Max)(mA): 0.01; Input Type: CMOS/TTL; Bits(#): 1; F @ Nom Voltage(Max)(Mhz): 150; Rating: Catalog; Technology Family: LVC; Voltage(Nom)(V): 1.8,2.5,3.3,5; Schmitt Trigger: No; Output Drive (IOL/IOH)(Max)(mA): 32/-32; tpd @ Nom Voltage(Max)(ns): 8.6,6,4.7,4; Logic: True; Sub-Family: Non-Inverting Buffer/Driver; DatasheetVersion: SCES296AC; PackageReference: DSF0006A; Supplier 1: Mouser; Supplier Part Number 1: 595-SN74LVC1G07DSFR; Supplier 2: Digi-Key; Supplier Part Number 2: 296-29520-2-ND; Supplier 3: Digi-Key; Supplier Part Number 3: 296-29520-1-ND; Supplier 4: Digi-Key; Supplier Part Number 4: 296-29520-6-ND; Operating Temperature Range(C): -40 to 125,-40 to 85; 3-State Output: No; ComponentLink1Description: Manufacturer URL; ComponentLink1URL: http://www.ti.com/; ComponentLink2Description: Datasheet; ComponentLink2URL: http://www.ti.com/lit/ds/symlink/sn74lvc1g07.pdf
footprint DSF0006A_V (SON, 6-Leads, Body 1x1mm, Pitch 0.35mm, TI Recommend)
part A pins: 2 A (in) "Input", 4 Y (oc) "Output"
part B pins: 1 NC "No connect", 3 GND (power) "Ground", 5 NC "No connect", 6 VCC (power) "Power pin"

## SN74LVC1G07MDCKREP
designator U?
Enhanced Product Single Buffer/Driver With Open-Drain Output, DCK0005A, LARGE T&R; Generic Part Number: SN74LVC1G07-EP; Manufacturer: Texas Instruments; PartNumber: SN74LVC1G07MDCKREP; VCC(Min)(V): 1.65; VCC(Max)(V): 5.5; Output Type: CMOS; ICC @ Nom Voltage(Max)(mA): 0.01; Input Type: CMOS/TTL; Bits(#): 1; F @ Nom Voltage(Max)(Mhz): 150; Rating: HiRel Enhanced Product; Technology Family: LVC; Voltage(Nom)(V): 1.8,2.5,3.3,5; Schmitt Trigger: No; Output Drive (IOL/IOH)(Max)(mA): 32/-32; tpd @ Nom Voltage(Max)(ns): 5.7,4.9; Logic: True; Sub-Family: Non-Inverting Buffer/Driver; DatasheetVersion: SCES685; PackageReference: DCK0005A; Supplier 1: Mouser; Supplier Part Number 1: 595-SN74LVC07MDCKREP; Supplier 2: Digi-Key; Supplier Part Number 2: 296-22343-2-ND; Supplier 3: Digi-Key; Supplier Part Number 3: 296-22343-1-ND; Supplier 4: Digi-Key; Supplier Part Number 4: 296-22343-6-ND; Operating Temperature Range(C): -55 to 125; 3-State Output: No; ComponentLink1Description: Manufacturer URL; ComponentLink1URL: http://www.ti.com/; ComponentLink2Description: Datasheet; ComponentLink2URL: http://www.ti.com/lit/ds/symlink/sn74lvc1g07-ep.pdf
footprint DCK0005A_N (SOT23, 5-Leads, Body 2.15x1.4mm, Pitch 0.65mm, IPC Medium Density)
footprint DCK0005A_M (SOT23, 5-Leads, Body 2.15x1.4mm, Pitch 0.65mm, IPC Low Density)
footprint DCK0005A_L (SOT23, 5-Leads, Body 2.15x1.4mm, Pitch 0.65mm, IPC High Density)
part A pins: 2 A (in) "Input A", 4 Y (oc) "Output Y"
part B pins: 1 NC "No Connection", 3 GND (power) "Ground Pin", 5 VCC (power) "Power Pin"

## SN74LVC1G07QDBVRQ1
designator U?
Automotive Catalog Single Buffer/Driver With Open-Drain Output, DBV0005A, LARGE T&R; Generic Part Number: SN74LVC1G07-Q1; Manufacturer: Texas Instruments; PartNumber: SN74LVC1G07QDBVRQ1; VCC(Min)(V): 1.65; VCC(Max)(V): 5.5; Output Type: CMOS; ICC @ Nom Voltage(Max)(mA): 0.01; Input Type: CMOS/TTL; Bits(#): 1; F @ Nom Voltage(Max)(Mhz): 150; Technology Family: LVC; Voltage(Nom)(V): 1.8,2.5,3.3,5; Schmitt Trigger: No; Output Drive (IOL/IOH)(Max)(mA): 32/-32; tpd @ Nom Voltage(Max)(ns): 9.8,7,5.7,4.9; Logic: True; Sub-Family: Non-Inverting Buffer/Driver; DatasheetVersion: SCES826; PackageReference: DBV0005A; Supplier 1: Mouser; Supplier Part Number 1: 595-74LVC1G07QDBVRQ1; Supplier 2: Digi-Key; Supplier Part Number 2: 296-28414-2-ND; Supplier 3: Digi-Key; Supplier Part Number 3: 296-28414-1-ND; Supplier 4: Digi-Key; Supplier Part Number 4: 296-28414-6-ND; Operating Temperature Range(C): -40 to 125; Rating: Automotive; 3-State Output: No; ComponentLink1Description: Manufacturer URL; ComponentLink1URL: http://www.ti.com/; ComponentLink2Description: Datasheet; ComponentLink2URL: http://www.ti.com/lit/ds/symlink/sn74lvc1g07-q1.pdf
footprint DBV0005A_N (SOT23, 5-Leads, Body 3.05x1.75mm, Pitch 0.95mm, IPC Medium Density)
footprint DBV0005A_M (SOT23, 5-Leads, Body 3.05x1.75mm, Pitch 0.95mm, IPC Low Density)
footprint DBV0005A_L (SOT23, 5-Leads, Body 3.05x1.75mm, Pitch 0.95mm, IPC High Density)
part A pins: 2 A (in) "Input A", 4 Y (oc) "Output Y"
part B pins: 1 NC "No Connection", 3 GND (power) "Ground Pin", 5 VCC (power) "Power Pin"

## SN74LVC1G07YZPR
designator U?
Single Buffer/Driver With Open-Drain Output, YZP0005ADAD, LARGE T&R; Generic Part Number: SN74LVC1G07; Manufacturer: Texas Instruments; PartNumber: SN74LVC1G07YZPR; VCC(Min)(V): 1.65; VCC(Max)(V): 5.5; Output Type: CMOS; ICC @ Nom Voltage(Max)(mA): 0.01; Input Type: CMOS/TTL; Bits(#): 1; F @ Nom Voltage(Max)(Mhz): 150; Rating: Catalog; Technology Family: LVC; Voltage(Nom)(V): 1.8,2.5,3.3,5; Schmitt Trigger: No; Output Drive (IOL/IOH)(Max)(mA): 32/-32; tpd @ Nom Voltage(Max)(ns): 8.6,6,4.7,4; Logic: True; Sub-Family: Non-Inverting Buffer/Driver; DatasheetVersion: SCES296AC; PackageReference: YZP0005ADAD; Supplier 1: Mouser; Supplier Part Number 1: 595-SN74LVC1G07YZPR; Supplier 2: Digi-Key; Supplier Part Number 2: 296-23273-2-ND; Supplier 3: Digi-Key; Supplier Part Number 3: 296-23273-1-ND; Supplier 4: Digi-Key; Supplier Part Number 4: 296-23273-6-ND; Operating Temperature Range(C): -40 to 125,-40 to 85; 3-State Output: No; ComponentLink1Description: Manufacturer URL; ComponentLink1URL: http://www.ti.com/; ComponentLink2Description: Datasheet; ComponentLink2URL: http://www.ti.com/lit/ds/symlink/sn74lvc1g07.pdf
footprint YZP0005ADAD (BGA, 5-Balls, Body 1.39x0.89mm, Pitch 0.5mm)
part A pins: B1 A (in) "Input A", C2 Y (oc) "Output Y"
part B pins: A1 DNU "Do not use", A2 VCC (power) "Power Pin", C1 GND (power) "Ground Pin"

## SN74LVC1G07YZVR
designator U?
Single Buffer/Driver With Open-Drain Output, YZV0004ADAD, LARGE T&R; Generic Part Number: SN74LVC1G07; Manufacturer: Texas Instruments; PartNumber: SN74LVC1G07YZVR; VCC(Min)(V): 1.65; VCC(Max)(V): 5.5; Output Type: CMOS; ICC @ Nom Voltage(Max)(mA): 0.01; Input Type: CMOS/TTL; Bits(#): 1; F @ Nom Voltage(Max)(Mhz): 150; Rating: Catalog; Technology Family: LVC; Voltage(Nom)(V): 1.8,2.5,3.3,5; Schmitt Trigger: No; Output Drive (IOL/IOH)(Max)(mA): 32/-32; tpd @ Nom Voltage(Max)(ns): 8.6,6,4.7,4; Logic: True; Sub-Family: Non-Inverting Buffer/Driver; DatasheetVersion: SCES296AC; PackageReference: YZV0004ADAD; Supplier 1: Mouser; Supplier Part Number 1: 595-SN74LVC1G07YZVR; Supplier 2: Digi-Key; Supplier Part Number 2: 296-21057-2-ND; Supplier 3: Digi-Key; Supplier Part Number 3: 296-21057-1-ND; Supplier 4: Digi-Key; Supplier Part Number 4: 296-21057-6-ND; Operating Temperature Range(C): -40 to 125,-40 to 85; 3-State Output: No; ComponentLink1Description: Manufacturer URL; ComponentLink1URL: http://www.ti.com/; ComponentLink2Description: Datasheet; ComponentLink2URL: http://www.ti.com/lit/ds/symlink/sn74lvc1g07.pdf
footprint YZV0004ADAD (BGA, 4-Balls, Body 0.89x0.89mm, Pitch 0.5mm)
part A pins: A1 A (in) "Input A", B2 Y (oc) "Output Y"
part B pins: A2 VCC (power) "Power Pin", B1 GND (power) "Ground Pin"

## SN74LVC1G08DBVR
designator U?
Single 2-Input Positive-AND Gate, DBV0005A, LARGE T&R; Generic Part Number: SN74LVC1G08; Manufacturer: Texas Instruments; PartNumber: SN74LVC1G08DBVR; VCC(Min)(V): 1.65; VCC(Max)(V): 5.5; Output Type: CMOS; ICC @ Nom Voltage(Max)(mA): 0.01; Input Type: CMOS/TTL; Bits(#): 1; F @ Nom Voltage(Max)(Mhz): 150; Rating: Catalog; Technology Family: LVC; Voltage(Nom)(V): 1.8,2.5,3.3,5; Schmitt Trigger: No; Output Drive (IOL/IOH)(Max)(mA): 32/-32; tpd @ Nom Voltage(Max)(ns): 4.5,6,4,5; Logic: True; Gate Type: AND; DatasheetVersion: SCES217Y; PackageReference: DBV0005A; Supplier 1: Mouser; Supplier Part Number 1: 595-SN74LVC1G08DBVR; Supplier 2: Digi-Key; Supplier Part Number 2: 296-11601-2-ND; Supplier 3: Digi-Key; Supplier Part Number 3: 296-11601-1-ND; Supplier 4: Digi-Key; Supplier Part Number 4: 296-11601-6-ND; Operating Temperature Range(C): -40 to 125,-40 to 85; Sub-Family: AND Gate; 3-State Output: No; ComponentLink1Description: Manufacturer URL; ComponentLink1URL: http://www.ti.com/; ComponentLink2Description: Datasheet; ComponentLink2URL: http://www.ti.com/lit/ds/symlink/sn74lvc1g08.pdf
footprint DBV0005A_N (SOT23, 5-Leads, Body 3.05x1.75mm, Pitch 0.95mm, IPC Medium Density)
footprint DBV0005A_M (SOT23, 5-Leads, Body 3.05x1.75mm, Pitch 0.95mm, IPC Low Density)
footprint DBV0005A_L (SOT23, 5-Leads, Body 3.05x1.75mm, Pitch 0.95mm, IPC High Density)
part A pins: 1 A (in) "Input A", 2 B (in) "Input B", 4 Y (out) "Output Y"
part B pins: 3 GND (power) "Ground Pin", 5 VCC (power) "Power Pin"

## SN74LVC1G08DBVT
designator U?
Single 2-Input Positive-AND Gate, DBV0005A, SMALL T&R; Generic Part Number: SN74LVC1G08; Manufacturer: Texas Instruments; PartNumber: SN74LVC1G08DBVT; VCC(Min)(V): 1.65; VCC(Max)(V): 5.5; Output Type: CMOS; ICC @ Nom Voltage(Max)(mA): 0.01; Input Type: CMOS/TTL; Bits(#): 1; F @ Nom Voltage(Max)(Mhz): 150; Rating: Catalog; Technology Family: LVC; Voltage(Nom)(V): 1.8,2.5,3.3,5; Schmitt Trigger: No; Output Drive (IOL/IOH)(Max)(mA): 32/-32; tpd @ Nom Voltage(Max)(ns): 4.5,6,4,5; Logic: True; Gate Type: AND; DatasheetVersion: SCES217Y; PackageReference: DBV0005A; Supplier 1: Mouser; Supplier Part Number 1: 595-SN74LVC1G08DBVT; Supplier 2: Digi-Key; Supplier Part Number 2: 296-26592-2-ND; Supplier 3: Digi-Key; Supplier Part Number 3: 296-26592-1-ND; Supplier 4: Digi-Key; Supplier Part Number 4: 296-26592-6-ND; Operating Temperature Range(C): -40 to 125,-40 to 85; Sub-Family: AND Gate; 3-State Output: No; ComponentLink1Description: Manufacturer URL; ComponentLink1URL: http://www.ti.com/; ComponentLink2Description: Datasheet; ComponentLink2URL: http://www.ti.com/lit/ds/symlink/sn74lvc1g08.pdf
footprint DBV0005A_N (SOT23, 5-Leads, Body 3.05x1.75mm, Pitch 0.95mm, IPC Medium Density)
footprint DBV0005A_M (SOT23, 5-Leads, Body 3.05x1.75mm, Pitch 0.95mm, IPC Low Density)
footprint DBV0005A_L (SOT23, 5-Leads, Body 3.05x1.75mm, Pitch 0.95mm, IPC High Density)
part A pins: 1 A (in) "Input A", 2 B (in) "Input B", 4 Y (out) "Output Y"
part B pins: 3 GND (power) "Ground Pin", 5 VCC (power) "Power Pin"

## SN74LVC1G08DCKR
designator U?
Single 2-Input Positive-AND Gate, DCK0005A, LARGE T&R; Generic Part Number: SN74LVC1G08; Manufacturer: Texas Instruments; PartNumber: SN74LVC1G08DCKR; VCC(Min)(V): 1.65; VCC(Max)(V): 5.5; Output Type: CMOS; ICC @ Nom Voltage(Max)(mA): 0.01; Input Type: CMOS/TTL; Bits(#): 1; F @ Nom Voltage(Max)(Mhz): 150; Rating: Catalog; Technology Family: LVC; Voltage(Nom)(V): 1.8,2.5,3.3,5; Schmitt Trigger: No; Output Drive (IOL/IOH)(Max)(mA): 32/-32; tpd @ Nom Voltage(Max)(ns): 4.5,6,4,5; Logic: True; Gate Type: AND; DatasheetVersion: SCES217Y; PackageReference: DCK0005A; Supplier 1: Mouser; Supplier Part Number 1: 595-SN74LVC1G08DCKR; Supplier 2: Digi-Key; Supplier Part Number 2: 296-11602-2-ND; Supplier 3: Digi-Key; Supplier Part Number 3: 296-11602-1-ND; Supplier 4: Digi-Key; Supplier Part Number 4: 296-11602-6-ND; Operating Temperature Range(C): -40 to 125,-40 to 85; Sub-Family: AND Gate; 3-State Output: No; ComponentLink1Description: Manufacturer URL; ComponentLink1URL: http://www.ti.com/; ComponentLink2Description: Datasheet; ComponentLink2URL: http://www.ti.com/lit/ds/symlink/sn74lvc1g08.pdf
footprint DCK0005A_N (SOT23, 5-Leads, Body 2.15x1.4mm, Pitch 0.65mm, IPC Medium Density)
footprint DCK0005A_M (SOT23, 5-Leads, Body 2.15x1.4mm, Pitch 0.65mm, IPC Low Density)
footprint DCK0005A_L (SOT23, 5-Leads, Body 2.15x1.4mm, Pitch 0.65mm, IPC High Density)
part A pins: 1 A (in) "Input A", 2 B (in) "Input B", 4 Y (out) "Output Y"
part B pins: 3 GND (power) "Ground Pin", 5 VCC (power) "Power Pin"

## SN74LVC1G08DCKT
designator U?
Single 2-Input Positive-AND Gate, DCK0005A, SMALL T&R; Generic Part Number: SN74LVC1G08; Manufacturer: Texas Instruments; PartNumber: SN74LVC1G08DCKT; VCC(Min)(V): 1.65; VCC(Max)(V): 5.5; Output Type: CMOS; ICC @ Nom Voltage(Max)(mA): 0.01; Input Type: CMOS/TTL; Bits(#): 1; F @ Nom Voltage(Max)(Mhz): 150; Rating: Catalog; Technology Family: LVC; Voltage(Nom)(V): 1.8,2.5,3.3,5; Schmitt Trigger: No; Output Drive (IOL/IOH)(Max)(mA): 32/-32; tpd @ Nom Voltage(Max)(ns): 4.5,6,4,5; Logic: True; Gate Type: AND; DatasheetVersion: SCES217Y; PackageReference: DCK0005A; Supplier 1: Mouser; Supplier Part Number 1: 595-SN74LVC1G08DCKT; Supplier 2: Digi-Key; Supplier Part Number 2: 296-26593-2-ND; Supplier 3: Digi-Key; Supplier Part Number 3: 296-26593-1-ND; Supplier 4: Digi-Key; Supplier Part Number 4: 296-26593-6-ND; Operating Temperature Range(C): -40 to 125,-40 to 85; Sub-Family: AND Gate; 3-State Output: No; ComponentLink1Description: Manufacturer URL; ComponentLink1URL: http://www.ti.com/; ComponentLink2Description: Datasheet; ComponentLink2URL: http://www.ti.com/lit/ds/symlink/sn74lvc1g08.pdf
footprint DCK0005A_N (SOT23, 5-Leads, Body 2.15x1.4mm, Pitch 0.65mm, IPC Medium Density)
footprint DCK0005A_M (SOT23, 5-Leads, Body 2.15x1.4mm, Pitch 0.65mm, IPC Low Density)
footprint DCK0005A_L (SOT23, 5-Leads, Body 2.15x1.4mm, Pitch 0.65mm, IPC High Density)
part A pins: 1 A (in) "Input A", 2 B (in) "Input B", 4 Y (out) "Output Y"
part B pins: 3 GND (power) "Ground Pin", 5 VCC (power) "Power Pin"

## SN74LVC1G08DPWR
designator U?
Single 2-Input Positive-AND Gate, DPW0004A, LARGE T&R; Generic Part Number: SN74LVC1G08; Manufacturer: Texas Instruments; PartNumber: SN74LVC1G08DPWR; VCC(Min)(V): 1.65; VCC(Max)(V): 5.5; Output Type: CMOS; ICC @ Nom Voltage(Max)(mA): 0.01; Input Type: CMOS/TTL; Bits(#): 1; F @ Nom Voltage(Max)(Mhz): 150; Rating: Catalog; Technology Family: LVC; Voltage(Nom)(V): 1.8,2.5,3.3,5; Schmitt Trigger: No; Output Drive (IOL/IOH)(Max)(mA): 32/-32; tpd @ Nom Voltage(Max)(ns): 4.5,6,4,5; Logic: True; Gate Type: AND; DatasheetVersion: SCES217Y; PackageReference: DPW0004A; Supplier 1: Mouser; Supplier Part Number 1: 595-SN74LVC1G08DPWR; Supplier 2: Digi-Key; Supplier Part Number 2: 296-40549-2-ND; Supplier 3: Digi-Key; Supplier Part Number 3: 296-40549-1-ND; Supplier 4: Digi-Key; Supplier Part Number 4: 296-40549-6-ND; Operating Temperature Range(C): -40 to 125,-40 to 85; Sub-Family: AND Gate; 3-State Output: No; ComponentLink1Description: Manufacturer URL; ComponentLink1URL: http://www.ti.com/; ComponentLink2Description: Datasheet; ComponentLink2URL: http://www.ti.com/lit/ds/symlink/sn74lvc1g08.pdf
footprint DPW0004A_V (SON, 5-Leads, Body 0.8x0.8mm, TI Recommend)
part A pins: 1 B (in) "Input B", 2 A (in) "Input A", 4 Y (out) "Output Y"
part B pins: 3 GND (power) "Ground", 5 VCC (power) "Power pin"

## SN74LVC1G08DRLR
designator U?
Single 2-Input Positive-AND Gate, DRL0005A, LARGE T&R; Generic Part Number: SN74LVC1G08; Manufacturer: Texas Instruments; PartNumber: SN74LVC1G08DRLR; VCC(Min)(V): 1.65; VCC(Max)(V): 5.5; Output Type: CMOS; ICC @ Nom Voltage(Max)(mA): 0.01; Input Type: CMOS/TTL; Bits(#): 1; F @ Nom Voltage(Max)(Mhz): 150; Rating: Catalog; Technology Family: LVC; Voltage(Nom)(V): 1.8,2.5,3.3,5; Schmitt Trigger: No; Output Drive (IOL/IOH)(Max)(mA): 32/-32; tpd @ Nom Voltage(Max)(ns): 4.5,6,4,5; Logic: True; Gate Type: AND; DatasheetVersion: SCES217Y; PackageReference: DRL0005A; Supplier 1: Mouser; Supplier Part Number 1: 595-SN74LVC1G08DRLR; Supplier 2: Digi-Key; Supplier Part Number 2: 296-18011-2-ND; Supplier 3: Digi-Key; Supplier Part Number 3: 296-18011-1-ND; Supplier 4: Digi-Key; Supplier Part Number 4: 296-18011-6-ND; Operating Temperature Range(C): -40 to 125,-40 to 85; Sub-Family: AND Gate; 3-State Output: No; ComponentLink1Description: Manufacturer URL; ComponentLink1URL: http://www.ti.com/; ComponentLink2Description: Datasheet; ComponentLink2URL: http://www.ti.com/lit/ds/symlink/sn74lvc1g08.pdf
footprint DRL0005A_N (SOT23, 5-Leads, Body 1.7x1.3mm, Pitch 0.5mm, IPC Medium Density)
footprint DRL0005A_M (SOT23, 5-Leads, Body 1.7x1.3mm, Pitch 0.5mm, IPC Low Density)
footprint DRL0005A_L (SOT23, 5-Leads, Body 1.7x1.3mm, Pitch 0.5mm, IPC High Density)
part A pins: 1 A (in) "Input A", 2 B (in) "Input B", 4 Y (out) "Output Y"
part B pins: 3 GND (power) "Ground Pin", 5 VCC (power) "Power Pin"